# Altium schematic symbol library J691137710002.SchLib: 1 symbol
Pins are listed as number, name and electrical type; pins without a type are passive.

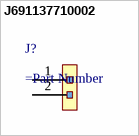
[diagram p0: symbol J691137710002]

## J691137710002
designator J?
=Description
pins: 1, 2